# Altium footprint library Simpton_PcbLib.PcbLib: 9 footprints
Each footprint in its own frame and in the unit in brackets; x right, y up, seen from the top. Pads: shape width x height; smd on the part's side, far side on the other; paste and mask are expansions set on the pad; w line width, h text height; cw(c..) or ccw(c..) is an arc to the next point about the centre after c.
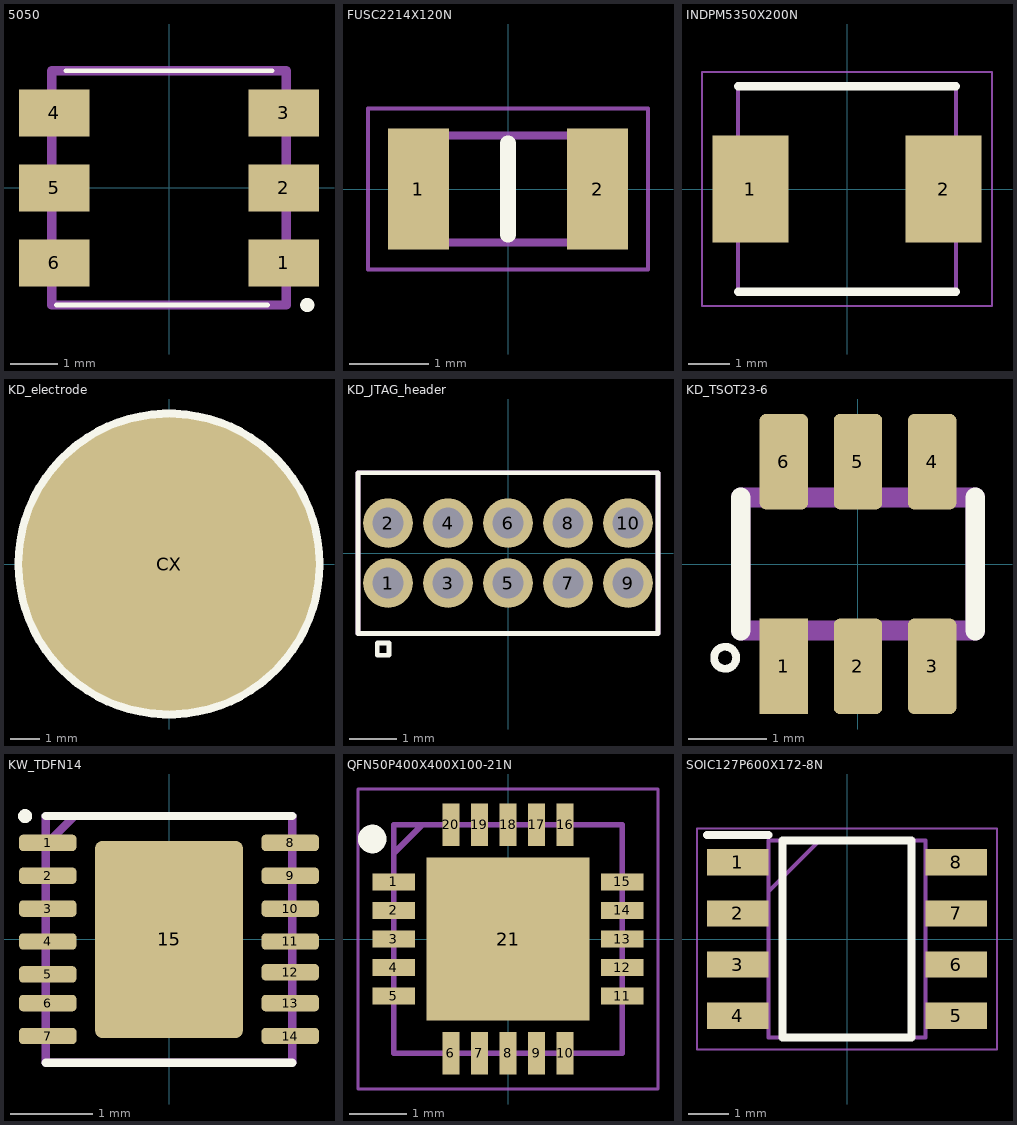
[diagram p0: the footprints below, top view; thin cyan lines are the x and y axes]

## 5050 [mm]
pads (6):
  rect 1.5x1 smd: 1(2.45,-1.6) 2(2.45,0) 3(2.45,1.6) 4(-2.45,1.6) 5(-2.45,0) 6(-2.45,-1.6)
Top Overlay:
  lines w0.1: -2.4,-2.5 2.1,-2.5 ; -2.2,2.5 2.2,2.5
  lines w0.2: 2.9,-2.5 cw(c2.95,-2.5) 3,-2.5 cw(c2.95,-2.5) 2.9,-2.5
Mechanical 13:
  lines w0.2: -2.5,-2.5 -2.5,2.5 2.5,2.5 2.5,-2.5 -2.5,-2.5
3D body "1586.stp": height 2.1, standoff 0, extent -2.5,-2.5 2.5,2.5

## FUSC2214X120N [mm]
pads (2):
  rect 0.77x1.52 smd: 1(-1.125,0) 2(1.125,0)
Top Overlay:
  lines w0.2: 0,-0.575 0,0.575
Mechanical 13:
  lines w0.1: -1.075,-0.675 -1.075,0.675 1.075,0.675 1.075,-0.675 -1.075,-0.675
Mechanical 15:
  lines w0.05: -1.76,-1.01 -1.76,1.01 1.76,1.01 1.76,-1.01 -1.76,-1.01
3D body "MF-PSHT050KX-2.stp": height 1.2, standoff 0, extent -1.075,-0.675 1.075,0.675

## INDPM5350X200N [mm]
pads (2):
  rect 1.85x2.6 smd: 1(-2.35,0) 2(2.35,0)
Top Overlay:
  lines w0.2: -2.65,-2.5 2.65,-2.5 ; -2.65,2.5 2.65,2.5
Mechanical 13:
  lines w0.1: -2.65,-2.5 2.65,-2.5 2.65,2.5 -2.65,2.5 -2.65,-2.5
Mechanical 15:
  lines w0.05: -3.525,-2.85 3.525,-2.85 3.525,2.85 -3.525,2.85 -3.525,-2.85
3D body "MPX1D0520L1R0.stp": height 2.6, standoff -2.6, extent -2.75,-0.04 2.75,1.96

## KD_electrode [mm]
pads (1):
  round 10 smd: CX(0,0)
Top Overlay:
  circle w0.3: c0,0 r5.104

## KD_JTAG_header [mm]
pads (10):
  round 1.05 hole 0.65: 1(-2.54,-0.635) 2(-2.54,0.635) 3(-1.27,-0.635) 4(-1.27,0.635) 5(0,-0.635) 6(0,0.635) 7(1.27,-0.635) 8(1.27,0.635) 9(2.54,-0.635) 10(2.54,0.635)
Top Overlay:
  lines w0.1: -3.175,-1.7 3.175,-1.7 3.175,1.7 -3.175,1.7 -3.175,-1.7 ; -2.768,-2.162 -2.517,-2.162 -2.517,-1.904 -2.768,-1.904 -2.768,-2.162
Mechanical 13:
  lines w0.1: -3.175,-1.7 3.175,-1.7 3.175,1.7 -3.175,1.7 -3.175,-1.7

## KD_TSOT23-6 [mm]
height 1
pads (6):
  rect 0.62x1.22 smd: 1(-0.95,-1.31)
  rrect25% 0.62x1.22 smd: 2(0,-1.31) 3(0.95,-1.31) 4(0.95,1.31) 5(0,1.31) 6(-0.95,1.31)
Top Overlay:
  circle w0.1: c-1.7,-1.2 r0.141
  lines w0.254: -1.5,-0.85 -1.5,0.85 ; 1.5,-0.85 1.5,0.85
Mechanical 13:
  lines w0.254: -1.5,-0.85 -1.5,0.85 1.5,0.85 1.5,-0.85 -1.5,-0.85

## KW_TDFN14 [mm]
height 0.8
pads (15):
  rrect50% 0.7x0.2 smd: 1(-1.475,1.175) 2(-1.475,0.775) 3(-1.475,0.375) 4(-1.475,-0.025) 5(-1.475,-0.425) 6(-1.475,-0.775) 7(-1.475,-1.175) 8(1.475,1.175) 9(1.475,0.775) 10(1.475,0.375) 11(1.475,-0.025) 12(1.475,-0.4) 13(1.475,-0.775) 14(1.475,-1.175)
  rrect10% 1.8x2.4 smd: 15(0,0)
Top Overlay:
  circle w0.1: c-1.75,1.5 r0.035
  lines w0.1: -1.5,-1.5 1.5,-1.5 ; -1.5,1.5 1.5,1.5
Mechanical 13:
  lines w0.1: -1.5,1.15 -1.15,1.5 ; -1.5,-1.5 -1.5,1.5 1.5,1.5 1.5,-1.5 -1.5,-1.5

## QFN50P400X400X100-21N [mm]
pads (21):
  rect 0.75x0.3 smd: 1(-2,1) 2(-2,0.5) 3(-2,0) 4(-2,-0.5) 5(-2,-1) 11(2,-1) 12(2,-0.5) 13(2,0) 14(2,0.5) 15(2,1)
  rect 0.3x0.75 smd: 6(-1,-2) 7(-0.5,-2) 8(0,-2) 9(0.5,-2) 10(1,-2) 16(1,2) 17(0.5,2) 18(0,2) 19(-0.5,2) 20(-1,2)
  rect 2.85x2.85 smd: 21(0,0)
Top Overlay:
  circle w0.25: c-2.375,1.75 r0.125
Mechanical 13:
  lines w0.1: -2,1.5 -1.5,2 ; -2,-2 2,-2 2,2 -2,2 -2,-2
Mechanical 15:
  lines w0.05: -2.625,-2.625 2.625,-2.625 2.625,2.625 -2.625,2.625 -2.625,-2.625
3D body "ISL91110IRNZ-T7A.stp": height 1, standoff 0, extent -2.05,-2.05 2.05,2.05

## SOIC127P600X172-8N [mm]
pads (8):
  rect 1.525x0.65 smd: 1(-2.712,1.905) 2(-2.712,0.635) 3(-2.712,-0.635) 4(-2.712,-1.905) 5(2.712,-1.905) 6(2.712,-0.635) 7(2.712,0.635) 8(2.712,1.905)
Top Overlay:
  lines w0.2: -3.475,2.58 -1.95,2.58 ; -1.6,-2.445 1.6,-2.445 1.6,2.445 -1.6,2.445 -1.6,-2.445
Mechanical 13:
  lines w0.1: -1.95,1.175 -0.68,2.445 ; -1.95,-2.445 1.95,-2.445 1.95,2.445 -1.95,2.445 -1.95,-2.445
Mechanical 15:
  lines w0.05: -3.725,-2.74 3.725,-2.74 3.725,2.74 -3.725,2.74 -3.725,-2.74
3D body "MLX90109CDC-AAA-000-SP.stp": height 1.72, standoff 0, extent -3,-2.445 3,2.445